# Altium schematic symbol library SCH - CURRENT SHUNT AMPLIFIER - TI INA20x DGK D.SchLib: 1 symbol
Pins are listed as number, name and electrical type; pins without a type are passive.

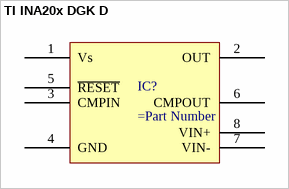
[diagram p0: symbol TI INA20x DGK D]

## TI INA20x DGK D
designator IC?
pins: 1 Vs, 2 OUT, 3 CMPIN, 4 GND, 5 ~{RESET}, 6 CMPOUT, 7 VIN-, 8 VIN+